# Altium integrated library MCP1700.IntLib: 1 symbol
Pins are listed as number, name and electrical type; pins without a type are passive.

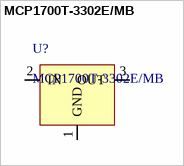
[diagram p0: symbol MCP1700T-3302E/MB]

## MCP1700T-3302E/MB
designator U?
PDF: http://www.microchip.com/mymicrochip/filehandler.aspx?ddocname=en011779; BUY_LINK: http://www.digikey.com/product-detail/en/MCP1700T-3302E%2FMB/MCP1700T3302EMBCT-ND/652679; PRICE: 0.44000; ID: MCP1700T-3302E/MB
footprint SOT89
pins: 1 GND, 2 IN, 3 OUT